# EAGLE library part S25FL127S (library QuadFCv1)
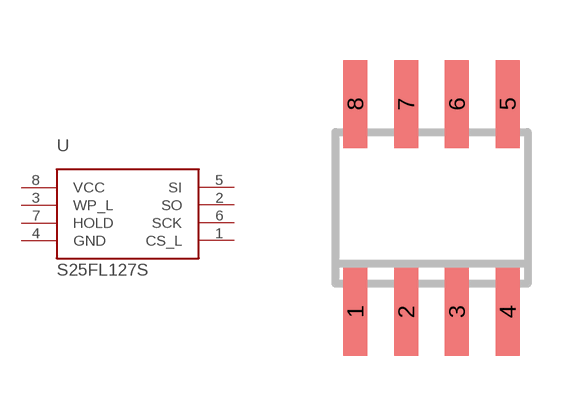
[diagram p9: symbol with the pads of SOIC8; footprint SOIC8]

Designator prefix -

## S25FL127S  [SOIC8]
1  CS_L
2  SO
3  WP_L
4  GND
5  SI
6  SCK
7  HOLD
8  VCC

## Footprint SOIC8 (pad centres in mm)
Small Outline IC
smd 0.6 x 2.2: 1 -1.905,-2.6; 2 -0.635,-2.6; 3 0.635,-2.6; 4 1.905,-2.6; 5 1.905,2.6; 6 0.635,2.6; 7 -0.635,2.6; 8 -1.905,2.6